# Altium schematic symbol library CPLD_Renesas.SchLib: 4 symbols
Pins are listed as number, name and electrical type; pins without a type are passive.

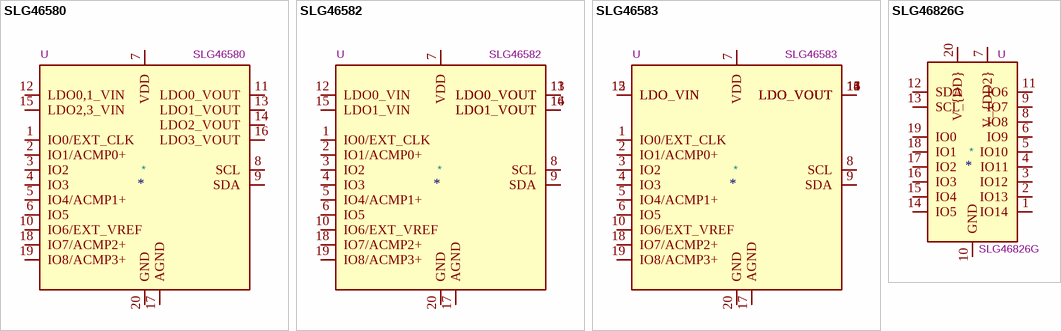
[diagram p0: symbols SLG46580 to SLG46826G]

## SLG46580
designator *  value SLG46580  Reference: U
GreenPAK Programmable Mixed-signal Matrix with Asynchronous State Machine, four 150mA LDO Regulators, UQFN-20; ki_keywords: Renesas Dialog-Semiconductor Silego-Technology GPIO ACMP ASM LUT CNT DLY DFF LATCH I2C NVM; ki_fp_filters: *QFN*2x3mm*P0.4mm*; Footprint: Package_DFN_QFN:Renesas_UQFN-20_2x3mm_P0.4mm_LayoutBorder4x6y; Datasheet: https://www.renesas.com/en/document/dst/slg465808283-datasheet; Description_: GreenPAK Programmable Mixed-signal Matrix with Asynchronous State Machine, four 150mA LDO Regulators, UQFN-20
pins: 1 IO0/EXT_CLK, 2 IO1/ACMP0+, 3 IO2, 4 IO3, 5 IO4/ACMP1+, 6 IO5, 7 VDD, 8 SCL, 9 SDA, 10 IO6/EXT_VREF, 11 LDO0_VOUT, 12 LDO0,1_VIN, 13 LDO1_VOUT, 14 LDO2_VOUT, 15 LDO2,3_VIN, 16 LDO3_VOUT, 17 AGND, 18 IO7/ACMP2+, 19 IO8/ACMP3+, 20 GND

## SLG46582
designator *  value SLG46582  Reference: U
GreenPAK Programmable Mixed-signal Matrix with Asynchronous State Machine, two 300mA LDO Regulators, UQFN-20; ki_keywords: Renesas Dialog-Semiconductor Silego-Technology GPIO ACMP ASM LUT CNT DLY DFF LATCH I2C NVM; ki_fp_filters: *QFN*2x3mm*P0.4mm*; Footprint: Package_DFN_QFN:Renesas_UQFN-20_2x3mm_P0.4mm_LayoutBorder4x6y; Datasheet: https://www.renesas.com/en/document/dst/slg465808283-datasheet; Description_: GreenPAK Programmable Mixed-signal Matrix with Asynchronous State Machine, two 300mA LDO Regulators, UQFN-20
pins: 1 IO0/EXT_CLK, 2 IO1/ACMP0+, 3 IO2, 4 IO3, 5 IO4/ACMP1+, 6 IO5, 7 VDD, 8 SCL, 9 SDA, 10 IO6/EXT_VREF, 11 LDO0_VOUT, 12 LDO0_VIN, 13 LDO0_VOUT, 14 LDO1_VOUT, 15 LDO1_VIN, 16 LDO1_VOUT, 17 AGND, 18 IO7/ACMP2+, 19 IO8/ACMP3+, 20 GND

## SLG46583
designator *  value SLG46583  Reference: U
GreenPAK Programmable Mixed-signal Matrix with Asynchronous State Machine, one 600mA LDO Regulator, UQFN-20; ki_keywords: Renesas Dialog-Semiconductor Silego-Technology GPIO ACMP ASM LUT CNT DLY DFF LATCH I2C NVM; ki_fp_filters: *QFN*2x3mm*P0.4mm*; Footprint: Package_DFN_QFN:Renesas_UQFN-20_2x3mm_P0.4mm_LayoutBorder4x6y; Datasheet: https://www.renesas.com/en/document/dst/slg465808283-datasheet; Description_: GreenPAK Programmable Mixed-signal Matrix with Asynchronous State Machine, one 600mA LDO Regulator, UQFN-20
pins: 1 IO0/EXT_CLK, 2 IO1/ACMP0+, 3 IO2, 4 IO3, 5 IO4/ACMP1+, 6 IO5, 7 VDD, 8 SCL, 9 SDA, 10 IO6/EXT_VREF, 11 LDO_VOUT, 12 LDO_VIN, 13 LDO_VOUT, 14 LDO_VOUT, 15 LDO_VIN, 16 LDO_VOUT, 17 AGND, 18 IO7/ACMP2+, 19 IO8/ACMP3+, 20 GND

## SLG46826G
designator *  value SLG46826G  Reference: U
GreenPAK Programmable Mixed-Signal Matrix with In-System Programmability, TSSOP-20; ki_keywords: cpld programmable logic low-cost renesas silego; ki_fp_filters: TSSOP*4.4x6.5mm*P0.65*; Footprint: Package_SO:TSSOP-20_4.4x6.5mm_P0.65mm; Datasheet: https://www.renesas.com/in/en/document/dst/slg46826-datasheet; Description_: GreenPAK Programmable Mixed-Signal Matrix with In-System Programmability, TSSOP-20
pins: 1 IO14, 2 IO13, 3 IO12, 4 IO11, 5 IO10, 6 IO9, 7 V_{DD2}, 8 IO8, 9 IO7, 10 GND, 11 IO6, 12 SDA, 13 SCL, 14 IO5, 15 IO4, 16 IO3, 17 IO2, 18 IO1, 19 IO0, 20 V_{DD}